# Altium integrated library Optical Sensors - Photodiodes.IntLib: 4 symbols
Pins are listed as number, name and electrical type; pins without a type are passive.

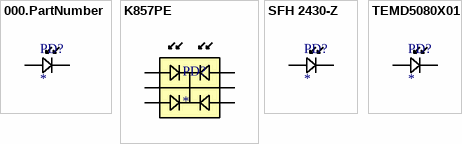
[diagram p0: symbols 000.PartNumber to TEMD5080X01]

## 000.PartNumber
designator PD?
Digikey Description; Manufacturer: *; Series: *; Package: *; Wavelength: *; Color - Enhanced: *; Spectral Range: *; Diode Type: *; Responsivity @ nm: *; Response Time: *; Current - Dark (Typ): *; Active Area: *; Viewing Angle: *; Operating Temperature: *; Mounting Type: *; Package / Case: *; Voltage - DC Reverse (Vr) (Max): *; Base Product Number: *; Ozdisan Link: *; Digikey Link: *; Farnell TR Link: *; Mouser Link: *
pins: 1, 2

## K857PE
designator PD?
FOUR QUADRANT PHOTO PIN DIODE; Manufacturer: Vishay Semiconductor Opto Division; Wavelength: 840 nm; Spectral Range: 690nm ~ 1050nm; Response Time: 30 ns; Current - Dark (Typ): 1 nA; Active Area: 1.6 mm²; Viewing Angle: 120°; Voltage - DC Reverse (Vr) (Max): 20 V; Base Product Number: K857; Series: Automotive, AEC-Q101; Package: Tape & Reel (TR); Color - Enhanced: -; Diode Type: PIN; Responsivity @ nm: -; Operating Temperature: -40°C ~ 110°C; Mounting Type: Surface Mount, Right Angle; Package / Case: 6-SMD, No Lead; Ozdisan Link: -; Digikey Link: https://www.digikey.com/en/products/detail/vishay-semiconductor-opto-division/K857PE/13540620?s=N4IgTCBcDaINIA4CsB2ACgURAXQL5A; Farnell TR Link: https://tr.farnell.com/vishay/k857pe/photodiode-aec-q101-4-quadrant/dp/3582606?st=k857pe; Mouser Link: https://www.mouser.com.tr/ProductDetail/Vishay-Semiconductors/K857PE?qs=%2Fha2pyFadugHmgmONsGHLoAJ1bPLIGzGLsDUWA%2FBVsM%3D
footprint VISHAY_K857PE
pins: 1 A4, 2 C1, 3 A2, 4 A1, 5 C2, 6 A3

## SFH 2430-Z
designator PD?
SENSOR PHOTODIODE 570NM 2SMD GW; Manufacturer: OSRAM Opto Semiconductors Inc.; Spectral Range: 400nm ~ 900nm; Diode Type: PIN; Response Time: 200 µs; Current - Dark (Typ): 100 pA; Active Area: 7.02 mm²; Viewing Angle: 120°; Voltage - DC Reverse (Vr) (Max): 6 V; Series: -; Package: Tape & Reel (TR); Wavelength: 570 nm; Color - Enhanced: -; Responsivity @ nm: -; Operating Temperature: -40°C ~ 100°C; Mounting Type: Surface Mount; Package / Case: 2-SMD, Gull Wing; Base Product Number: SFH 2430; Ozdisan Link: https://ozdisan.com/Product/Detail/506942/SFH-2430-Z; Digikey Link: https://www.digikey.com/en/products/detail/osram-opto-semiconductors-inc/SFH-2430-Z/1668853?s=N4IgTCBcDaIMoDEASACMAWAzABgLQC0QBdAXyA; Farnell TR Link: https://tr.farnell.com/osram-opto-semiconductors/sfh-2430-z/photo-diode-aec-q101-570nm-smdip/dp/2981708?st=sfh%202430-z; Mouser Link: https://www.mouser.com.tr/ProductDetail/OSRAM-Opto-Semiconductors/SFH-2430-Z?qs=%2Fha2pyFaduhOxHiFW4cLbw0DyY6PXj9jEBM%252BI9uVPYjEftegZBW0uw%3D%3D
footprint OSRAM_SFH-2430-Z
pins: 1, 2

## TEMD5080X01
designator PD?
PHOTODIODE 350 TO 1070 NM; Manufacturer: Vishay Semiconductor Opto Division; Wavelength: 940 nm; Color - Enhanced: Blue; Spectral Range: 350nm ~ 1100nm; Diode Type: PIN; Response Time: 40 ns; Current - Dark (Typ): 2 nA; Active Area: 7.7 mm²; Viewing Angle: 130°; Voltage - DC Reverse (Vr) (Max): 25 V; Base Product Number: TEMD5080; Series: -; Package: Tape & Reel (TR); Responsivity @ nm: -; Operating Temperature: -40°C ~ 100°C; Mounting Type: Surface Mount; Package / Case: 2-SMD, No Lead; Ozdisan Link: -; Digikey Link: https://www.digikey.com/en/products/detail/vishay-semiconductor-opto-division/TEMD5080X01/2747444; Farnell TR Link: https://tr.farnell.com/vishay/temd5080x01/photodiode-940nm-smd/dp/2251276?ost=temd5080x01; Mouser Link: https://www.mouser.com.tr/ProductDetail/Vishay-Semiconductors/TEMD5080X01?qs=%2Fha2pyFaduh7BaxXdIU%2FiqoWmJZdNBukGKXVRkaQBtFAAIEDyXK6wg%3D%3D
footprint VISHAY_TEMD5080X01
pins: 1, 2